# EAGLE library part ADS1100 (library BMC components)
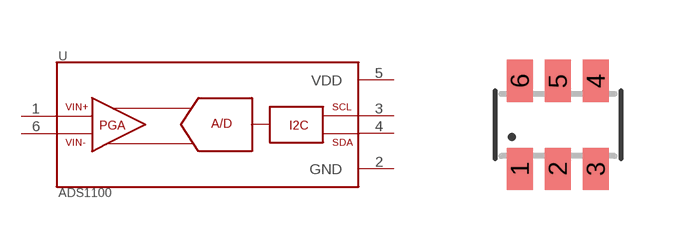
[diagram p9: symbol with the pads of SOT23-6; footprint SOT23-6]

Designator prefix -

## ADS1100  [SOT23-6]
1  VIN+
2  GND  pwr
3  SCL
4  SDA
5  VDD  pwr
6  VIN-

## Footprint SOT23-6 (pad centres in mm)
smd 0.65 x 1.06: 1 0.32,-1.1; 2 1.27,-1.1; 3 2.22,-1.1; 4 2.22,1.1; 5 1.27,1.1; 6 0.32,1.1